# EAGLE library part К500ЛП (library 500)
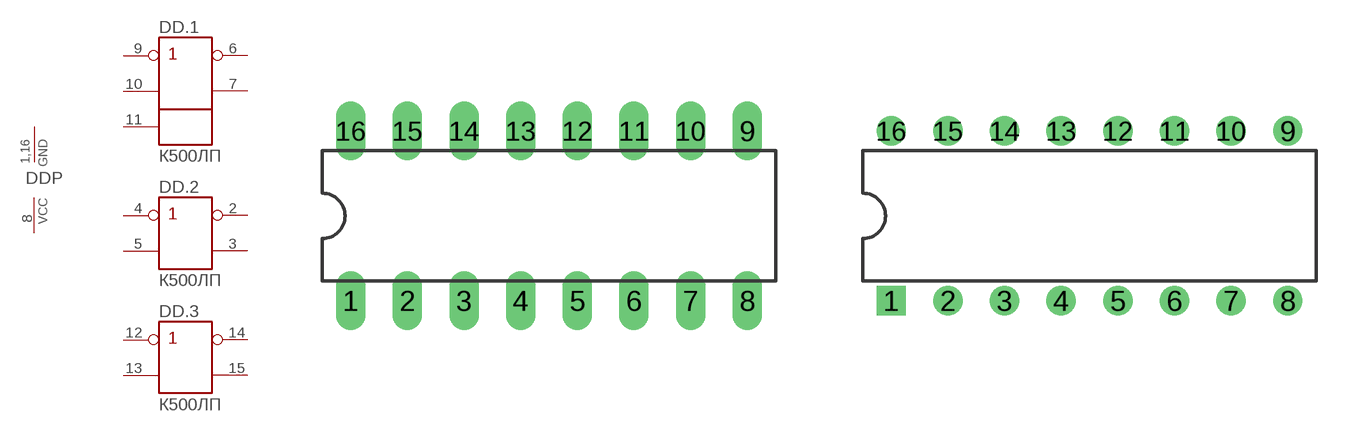
[diagram p0: symbol with the pads of DIL16; footprints DIL16, DIL16B]

Designator prefix DD; gates P=PWRN .1=LP1 .2=LP .3=LP

## К500ЛП216L  [DIL16]
1  P:GND  pwr
2  .2:!OUT  out
3  .2:OUT  out
4  .2:!IN  in
5  .2:IN  in
6  .1:!OUT  out
7  .1:OUT  out
8  P:VCC  pwr
9  .1:!IN  in
10  .1:IN  in
11  .1:V  in
12  .3:!IN  in
13  .3:IN  in
14  .3:!OUT  out
15  .3:OUT  out
16  P:GND  pwr

## К500ЛП216R  [DIL16B]
Pads as for DIL16

## Footprint DIL16 (pad centres in mm)
Dual In Line Package
drill 0.813 long: 1 -8.89,-3.81; 2 -6.35,-3.81; 3 -3.81,-3.81; 4 -1.27,-3.81; 5 1.27,-3.81; 6 3.81,-3.81; 7 6.35,-3.81; 8 8.89,-3.81; 9 8.89,3.81; 10 6.35,3.81; 11 3.81,3.81; 12 1.27,3.81; 13 -1.27,3.81; 14 -3.81,3.81; 15 -6.35,3.81; 16 -8.89,3.81

## Footprint DIL16B (pad centres in mm)
drill 0.813 square: 1 -8.89,-3.81
drill 0.813: 2 -6.35,-3.81; 3 -3.81,-3.81; 4 -1.27,-3.81; 5 1.27,-3.81; 6 3.81,-3.81; 7 6.35,-3.81; 8 8.89,-3.81; 9 8.89,3.81; 10 6.35,3.81; 11 3.81,3.81; 12 1.27,3.81; 13 -1.27,3.81; 14 -3.81,3.81; 15 -6.35,3.81; 16 -8.89,3.81